# EAGLE library part 74*1G18 (library be_driver)
1-2 muxer device edited: Mario Blunk / Blunk electronic
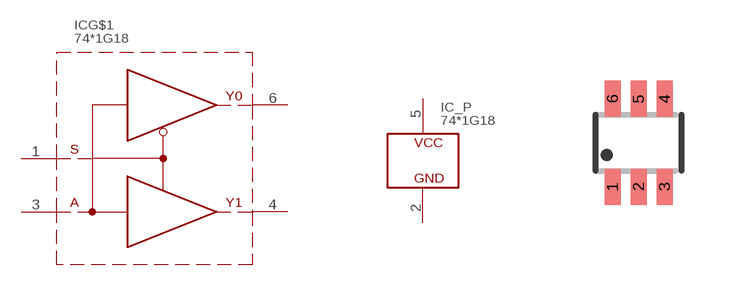
[diagram p3: symbol with the pads of S_SO6; footprint S_SO6]

Designator prefix IC; gates G$1=SINGLE_1-2_MUXER _P=PWR

## 74LVC1G18DCK (BOM: YES; COMMISSIONED: 2013-03-25; PART_CODE_BEL: IC_PAC_S_SO6_VAL_)  [S_SO6]
1  G$1:S  in
2  _P:GND  pwr
3  G$1:A  in
4  G$1:Y1  out
5  _P:VCC  pwr
6  G$1:Y0  out

## Footprint S_SO6 (pad centres in mm)
edited: Mario Blunk / Blunk electronic date: 2014-06-06
smd 0.4 x 0.9: 1 -0.65,-1.1; 2 0,-1.1; 3 0.65,-1.1; 4 0.65,1.1; 5 0,1.1; 6 -0.65,1.1